# Altium integrated library RIC11-31S15D7-GSMT.IntLib: 1 symbol
Pins are listed as number, name and electrical type; pins without a type are passive.

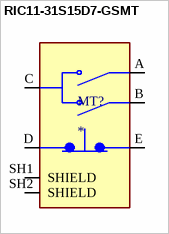
[diagram p0: symbol RIC11-31S15D7-GSMT]

## RIC11-31S15D7-GSMT
designator MT?
MP: RIC11-31S15D7-GSMT; Package: None; Price: None; Value: *; Availability: Unavailable
footprint XDCR_RIC11-31S15D7-GSMT
pins: A, B, C, D S1, E S2, SH1 SHIELD, SH2 SHIELD